# Altium footprint library MFR-25FBF52-140R.PcbLib: 1 footprints
Each footprint in its own frame and in the unit in brackets; x right, y up, seen from the top. Pads: shape width x height; smd on the part's side, far side on the other; paste and mask are expansions set on the pad; w line width, h text height; cw(c..) or ccw(c..) is an arc to the next point about the centre after c.
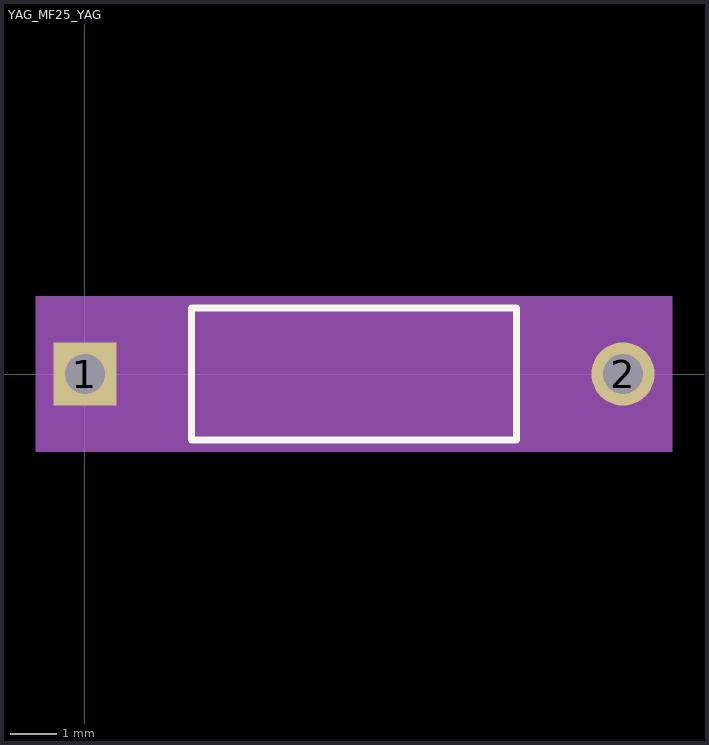
[diagram p0: the footprint, top view; thin cyan lines are the x and y axes]

## YAG_MF25_YAG [mil]
pads (2):
  rect 54x54 hole 34 mask+0: 1(0,0)
  round 54 hole 34 mask+0: 2(460,0)
Top Overlay:
  lines w6: 91,-56.5 369,-56.5 369,56.5 91,56.5 91,-56.5
Mechanical 5:
  region: 502,-66.5 -42,-66.5 -42,66.5 502,66.5
Mechanical 13:
  lines w1: 0,0 96,0 ; 364,0 460,0 ; 96,-51.5 364,-51.5 364,51.5 96,51.5 96,-51.5
Mechanical 15:
  region: 86,-37 -37,-37 -37,37 86,37 86,61.5 374,61.5 374,37 497,37 497,-37 374,-37 374,-61.5 86,-61.5
  lines w6: -37,-37 -37,37 86,37 86,61.5 374,61.5 374,37 497,37 497,-37 374,-37 374,-61.5 86,-61.5 86,-37 -37,-37
3D body "YAG_MF25_YAG.step": height 102.59, standoff -110, extent -12.01,-51.4 472.01,51.4